# EAGLE library part USB-B (library connectors)
BERG USB connector
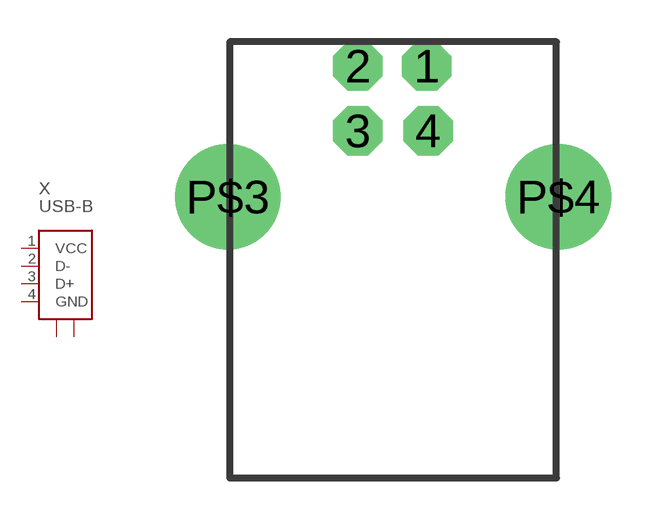
[diagram p2: symbol with the pads of USB-B; footprint USB-B]

Designator prefix X

## USB-B  [USB-B]
1  VCC  pwr
2  D-
3  D+
4  GND  pwr
P$3  SHIELD  pwr
P$4  SHIELD  pwr

## Footprint USB-B (pad centres in mm)
BERG
drill 0.8 pad 1.778 octagon: 1 1.219,4.724; 2 -1.27,4.724; 3 -1.27,2.388; 4 1.27,2.388
drill 1.6 pad 3.81: P$3 -5.969,0; P$4 5.969,0